# Altium schematic symbol library connectors.SchLib: 41 symbols
Pins are listed as number, name and electrical type; pins without a type are passive.

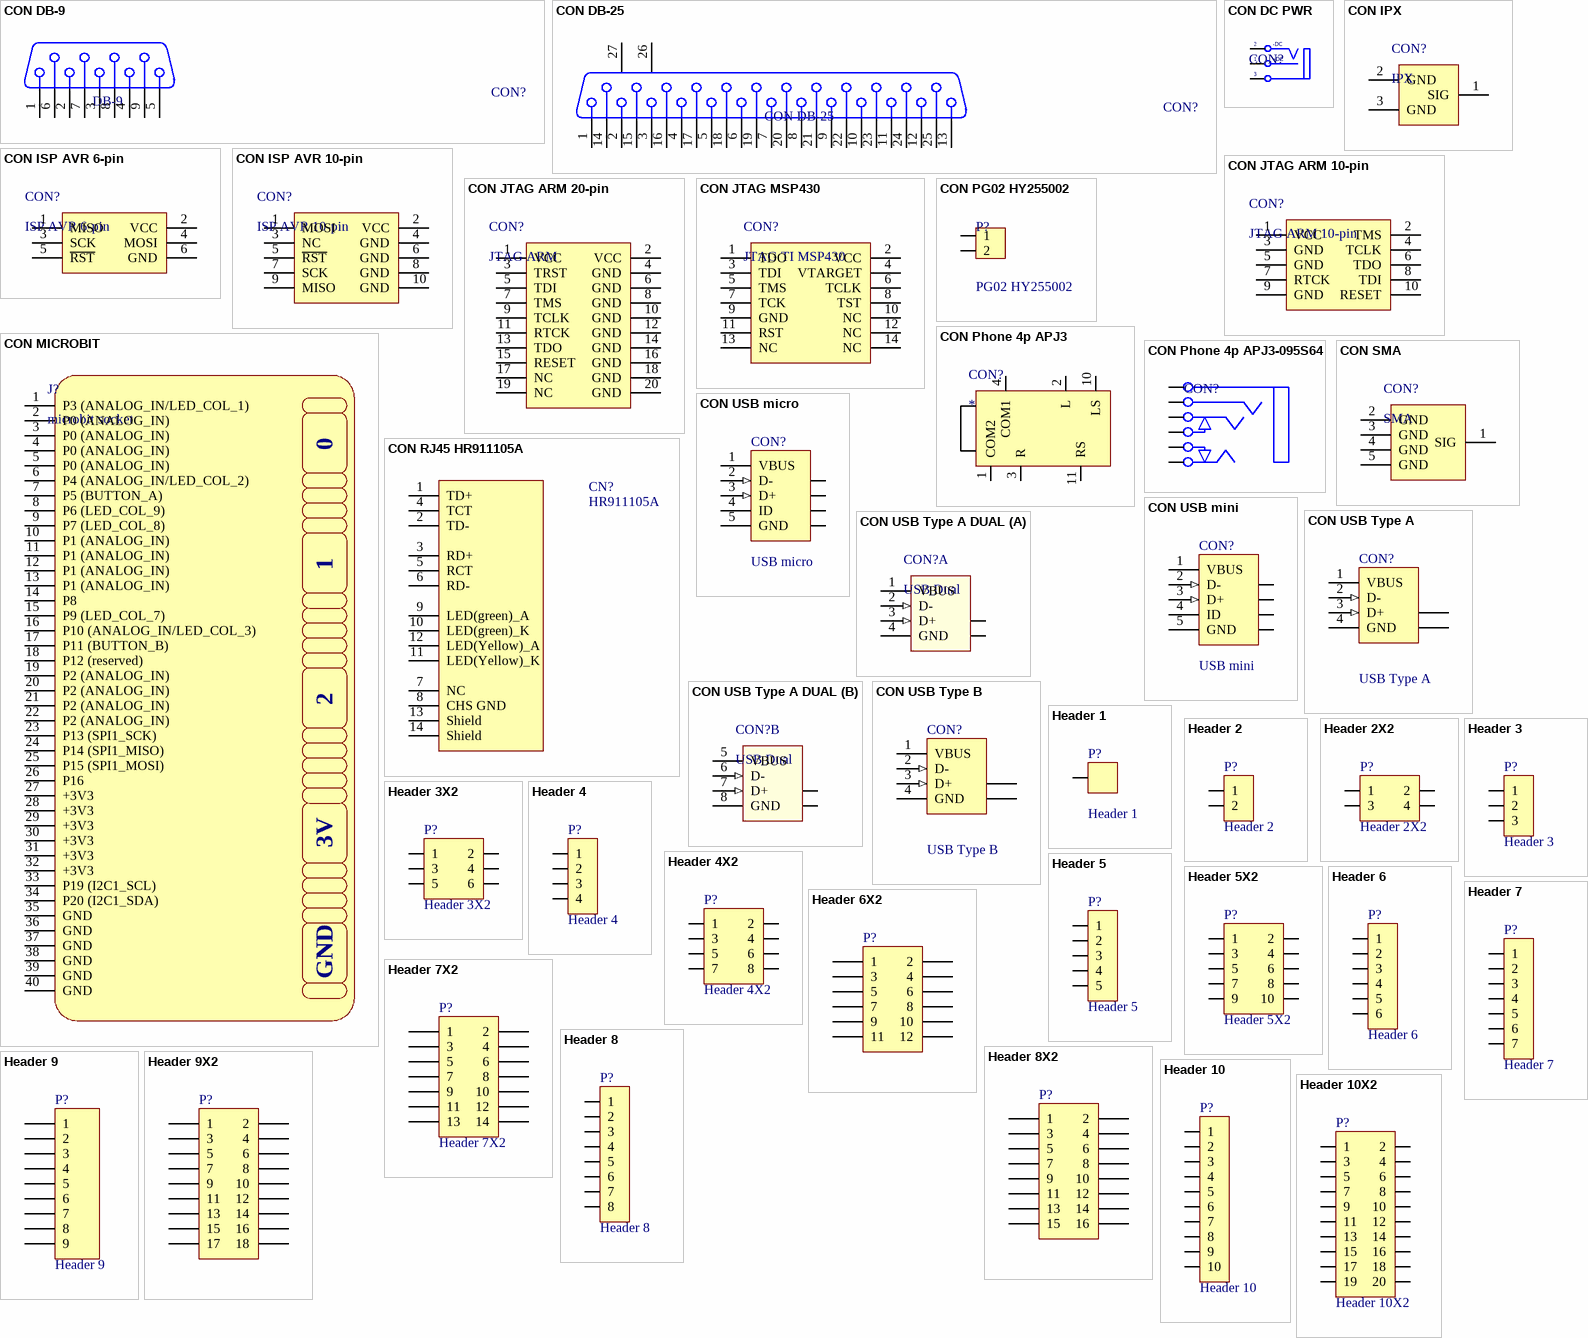
[diagram p0: symbols CON DB-9 to Header 10X2]

## CON DB-9
designator CON?, comment DB-9
Connector D-Sub 9
footprint CONN/DB9/FEMALE
pins: 1, 2, 3, 4, 5, 6, 7, 8, 9

## CON DB-25
designator CON?
Connector D-Sub 25
footprint CONN/DB25/Female (LPT FMALE - D Subminiature; 25 Position; Right Angle; Pitch 1.385 mm)
footprint CONN/DB25/Male (LPT MALE D Subminiature; 25 Position; Right Angle; Pitch 1.385 mm)
pins: 1, 2, 3, 4, 5, 6, 7, 8, 9, 10, 11, 12, 13, 14, 15, 16, 17, 18, 19, 20, 21, 22, 23, 24, 25, 26 MH1, 27 MH2

## CON DC PWR
designator CON?
DC input connector
footprint CONN/DC/PWR/3.5mm
footprint CONN/DC/PWR/5.0MM
pins: 1 S (power) "Sleeve (Ground)", 2 T "Tip Normal (Break Contact)", 3 TN "Tip"
text: -DC; +DC

## CON IPX
designator CON?, comment IPX
footprint CONN/IPX/SMD
pins: 1 SIG, 2 GND, 3 GND

## CON ISP AVR 6-pin
designator CON?, comment ISP AVR 6-pin
ISP AVR 6-pin interface
footprint HDR/Header/6/DL
footprint HDR/Header/6/DL/2mm
footprint HDR/Header/6/DL/BOX
footprint HDR/Header/6/DL/Box/RA
footprint HDR/Header/6/DL/BOX/TR
pins: 1 MISO, 2 VCC, 3 SCK, 4 MOSI, 5 ~{RST}, 6 GND

## CON ISP AVR 10-pin
designator CON?, comment ISP AVR 10-pin
ISP AVR 10-pin interface
footprint HDR/Header/10/DL/BOX (10 pins Male Box Header, IDC Socket)
footprint HDR/Header/10/DL/BOX/RA (10 pins Male Box Header right angle, IDC Socket)
pins: 1 MOSI, 2 VCC, 3 NC, 4 GND, 5 ~{RST}, 6 GND, 7 SCK, 8 GND, 9 MISO, 10 GND

## CON JTAG ARM 10-pin
designator CON?, comment JTAG ARM 10-pin
JTAG ARM 10-pin interface
footprint HDR/Header/10/DL/BOX (10 pins Male Box Header, IDC Socket)
footprint HDR/Header/10/DL/BOX/RA (10 pins Male Box Header right angle, IDC Socket)
pins: 1 VCC, 2 TMS, 3 GND, 4 TCLK, 5 GND, 6 TDO, 7 RTCK, 8 TDI, 9 GND, 10 RESET

## CON JTAG ARM 20-pin
designator CON?, comment JTAG ARM
JTAG ARM 20-pin interface
footprint HDR/Header/20/DL/BOX (20 pins Male Box Header, IDC Socket)
footprint HDR/Header/20/DL/BOX/RA (20 pins Male Box Header, IDC Socket)
pins: 1 VCC, 2 VCC, 3 TRST, 4 GND, 5 TDI, 6 GND, 7 TMS, 8 GND, 9 TCLK, 10 GND, 11 RTCK, 12 GND, 13 TDO, 14 GND, 15 RESET, 16 GND, 17 NC, 18 GND, 19 NC, 20 GND

## CON JTAG MSP430
designator CON?, comment JTAG TI MSP430
JTAG TI 14 pins for DSPs, MSPs
footprint HDR/Header/14/DL/BOX (14 pins Male Box Header, IDC Socket)
pins: 1 TDO, 2 VCC, 3 TDI, 4 VTARGET, 5 TMS, 6 TCLK, 7 TCK, 8 TST, 9 GND, 10 NC, 11 RST, 12 NC, 13 NC, 14 NC

## CON MICROBIT
designator J?, comment microbit socket
microbit socket 40 pins
footprint CONN/MIC127-140-A01
footprint CONN/MIC127-140-001
pins: 1 P3 (ANALOG_IN/LED_COL_1), 2 P0 (ANALOG_IN), 3 P0 (ANALOG_IN), 4 P0 (ANALOG_IN), 5 P0 (ANALOG_IN), 6 P4 (ANALOG_IN/LED_COL_2), 7 P5 (BUTTON_A), 8 P6 (LED_COL_9), 9 P7 (LED_COL_8), 10 P1 (ANALOG_IN), 11 P1 (ANALOG_IN), 12 P1 (ANALOG_IN), 13 P1 (ANALOG_IN), 14 P8, 15 P9 (LED_COL_7), 16 P10 (ANALOG_IN/LED_COL_3), 17 P11 (BUTTON_B), 18 P12 (reserved), 19 P2 (ANALOG_IN), 20 P2 (ANALOG_IN), 21 P2 (ANALOG_IN), 22 P2 (ANALOG_IN), 23 P13 (SPI1_SCK), 24 P14 (SPI1_MISO), 25 P15 (SPI1_MOSI), 26 P16, 27 +3V3, 28 +3V3, 29 +3V3, 30 +3V3, 31 +3V3, 32 +3V3, 33 P19 (I2C1_SCL), 34 P20 (I2C1_SDA), 35 GND, 36 GND, 37 GND, 38 GND, 39 GND, 40 GND
text: 0; 3V

## CON PG02 HY255002
designator P?, comment PG02 HY255002
Pogo 2-pin pitch 3.0 SMD
footprint CONN/HY255002
pins: 1, 2

## CON Phone 4p APJ3
designator CON?
Connector Stereo Phone 4 poles
footprint CONN/Phone/4P/SMD
pins: 1 COM2, 2 L, 3 R, 4 COM1, 10 LS, 11 RS

## CON Phone 4p APJ3-095S64
designator CON?, comment Phone Jack 4-pole APJ3-095S64  (value not drawn)
footprint CONN/Phone/4P/SMD
pins: 1, 2, 3, 4, 10, 11

## CON RJ45 HR911105A
designator CN?, comment HR911105A
Connector RJ45 HR911105A
footprint CONN/RJ45/HR911105A
pins: 1 TD+, 2 TD-, 3 RD+, 4 TCT, 5 RCT, 6 RD-, 7 NC, 8 CHS GND, 9 LED(green)_A, 10 LED(green)_K, 11 LED(Yellow)_K, 12 LED(Yellow)_A, 13 Shield, 14 Shield

## CON SMA
designator CON?, comment SMA
SMA connectors
footprint CONN/SMA (Connector; RF Coaxial, MCX, Thru-Hole; 5 Position; Right Angle)
footprint CONN/SMA/EdgePCB (Connector; RF Coaxial, MCX, Thru-Hole; 5 Position; Right Angle)
footprint CONN/SMA/RA (Connector; RF Coaxial, MCX, Thru-Hole; 5 Position; Right Angle)
pins: 1 SIG, 2 GND, 3 GND, 4 GND, 5 GND

## CON USB micro
designator CON?, comment USB micro
USB micro, 5 pins
footprint CONN/USB/MICRO/RA
footprint CONN/USB/MICRO/RA/H
pins: 1 VBUS (power) "Power", 2 D- (in) "-DATA", 3 D+ (in) "+DATA", 4 ID, 5 GND (power) "Ground", 6 SHLD "Shield", 7 SHLD "Shield", 8 SHLD "Shield", 9 SHLD "Shield"

## CON USB mini
designator CON?, comment USB mini
USB mini type B, 5 pins
footprint CONN/USB/Mini/DIP/RA (Connector; USB2.0, Type B, SM; 5 Position; Right Angle)
footprint CONN/USB/Mini/SMD/RA (Connector; USB2.0, Type B, SM; 5 Position; Right Angle)
pins: 1 VBUS (power) "Power", 2 D- (in) "-DATA", 3 D+ (in) "+DATA", 4 ID, 5 GND (power) "Ground", 6 SHLD "Shield", 7 SHLD "Shield", 8 SHLD "Shield", 9 SHLD "Shield"

## CON USB Type A
designator CON?, comment USB Type A
USB type A, 4 pins
footprint CONN/USB/A/FEMALE/RA
footprint CONN/USB/A/MALE/RA
pins: 1 VBUS (power) "Power", 2 D- (in) "-DATA", 3 D+ (in) "+DATA", 4 GND (power) "Ground", 5 SHLD "Shield", 6 SHLD "Shield"

## CON USB Type A DUAL
designator CON?, comment USB Dual
CONN USB 2.0 R/A DL FMALE TYPE A; PART NO: AU-Y1008-2-R; BRAND: Assmann WSW Components; PACKAGE: CONN USB 2.0 R/A DL FMALE TYPE A; STOCK CODE: AE10334-ND; SUPPLIER: Digi-Key; TYPE: MI
footprint CONN/USB/A/FMALE/DL/RA (USB 2.0 R/A Dual FMALE TYPE A)
part A pins: 1 VBUS, 2 D- (in), 3 D+ (in), 4 GND, 9 SHLD, 10 SHLD
part B pins: 5 VBUS, 6 D- (in), 7 D+ (in), 8 GND, 11 SHLD, 12 SHLD

## CON USB Type B
designator CON?, comment USB Type B
USB type B, 4 pins
footprint CONN/USB/B/RA
pins: 1 VBUS (power) "Power", 2 D- (in) "-DATA", 3 D+ (in) "+DATA", 4 GND (power) "Ground", 5 SHLD "Shield", 6 SHLD "Shield"

## Header 1
designator P?
Header, 1-Pin
footprint HDR/Header/1
footprint HDR/Terminal/1 (Header 1, 1 pin, hight 300mil, Pin to Pin 200, Colour Green)
footprint HDR/Terminal/1/copper/6.0 (Header 1, 1 pin,)
footprint HDR/Terminal/1/copper/9.0 (Header 1, 1 pin,)
footprint HDR/Terminal/1/copper/8.8 (Header 1, 1 pin,)
footprint HDR/Terminal/1/copper/7.5 (Header 1, 1 pin,)
pins: 1

## Header 2
designator P?
Header, 2-Pin
footprint HDR/Header/2
footprint HDR/Header/2/2mm
footprint HDR/Header/2/BOX
footprint HDR/Terminal/2 (Header 2, 2 pin, hight 400mil, Pin to Pin 200mil, Colour Green)
footprint HDR/Terminal/2/4mm
footprint HDR/Terminal/2/5mm (Header 2, 2 pin, hight 400mil, Pin to Pin 200mil, Colour Green)
footprint HDR/Terminal/2/5mm/RA (Header 2, 2 pin, hight 300mil, Pin to Pin 200, Colour Green)
footprint HDR/Terminal/2/9.5MM/ELT950 (ELT950-9.5mm-2P)
footprint HDR/Terminal/2/300
footprint HDR/Terminal/2/400
footprint HDR/Terminal/2/RA (Header 2, 2 pin, hight 300mil, Pin to Pin 200, Colour Green)
footprint HDR/Terminal/2/3.5mm
pins: 1, 2

## Header 2X2
designator P?
Header, 2-Pin, Dual row
footprint HDR/Header/4/DL
pins: 1, 2, 3, 4

## Header 3
designator P?
Header, 3-Pin
footprint HDR/Header/3
footprint HDR/Header/3/2mm
footprint HDR/Header/3/BOX
footprint HDR/Terminal/3
footprint HDR/Terminal/3/4mm
footprint HDR/Terminal/3/400
footprint HDR/Terminal/3/RA (Header 3, 3 pin, hight 300mil, Pin to Pin 200, Colour Green)
pins: 1, 2, 3

## Header 3X2
designator P?
Header, 3-Pin, Dual row
footprint HDR/Header/6/DL
footprint HDR/Header/6/DL/BOX
footprint HDR/Header/6/DL/Box/RA
footprint HDR/Header/6/DL/BOX/TR
footprint HDR/Header/6/DL/2mm
pins: 1, 2, 3, 4, 5, 6

## Header 4
designator P?
Header, 4-Pin
footprint HDR/Header/4
footprint HDR/Header/4/2mm
footprint HDR/Header/4/BOX
footprint HDR/Terminal/4
footprint HDR/Terminal/4/RA (Header 4, 4 pin, hight 300mil, Pin to Pin 200, Colour Green)
footprint HDR/Header/4/BOX/SMD
footprint HDR/Header/4/2mm/BOX/SMD
pins: 1, 2, 3, 4

## Header 4X2
designator P?
Header, 4-Pin, Dual row
footprint HDR/Header/8/DL
footprint HDR/Header/8/DL/SMD
pins: 1, 2, 3, 4, 5, 6, 7, 8

## Header 5
designator P?
Header, 5-Pin
footprint HDR/Header/5
footprint HDR/Header/5/2mm
footprint HDR/Header/5/BOX
footprint HDR/Terminal/5/RA
pins: 1, 2, 3, 4, 5

## Header 5X2
designator P?
Header, 5-Pin, Dual row
footprint HDR/Header/10/DL
footprint HDR/Header/10/DL/BOX (10 pins Male Box Header, IDC Socket)
footprint HDR/Header/10/DL/BOX/RA (10 pins Male Box Header right angle, IDC Socket)
pins: 1, 2, 3, 4, 5, 6, 7, 8, 9, 10

## Header 6
designator P?
Header, 6-Pin
footprint HDR/Header/6
footprint HDR/Header/6/2mm
footprint HDR/Header/6/BOX
footprint HDR/Terminal/6
footprint HDR/TERMINAL/6/375
footprint HDR/Terminal/6/RA (Header 6, 6 pin, hight 300mil, Pin to Pin 200, Colour Green)
pins: 1, 2, 3, 4, 5, 6

## Header 6X2
designator P?
Header, 6-Pin, Dual row
pins: 1, 2, 3, 4, 5, 6, 7, 8, 9, 10, 11, 12

## Header 7
designator P?
Header, 7-Pin
footprint HDR/Header/7
footprint HDR/Header/7/2mm
pins: 1, 2, 3, 4, 5, 6, 7

## Header 7X2
designator P?
Header, 7-Pin, Dual row
footprint HDR/Header/14/DL/BOX (14 pins Male Box Header, IDC Socket)
pins: 1, 2, 3, 4, 5, 6, 7, 8, 9, 10, 11, 12, 13, 14

## Header 8
designator P?
Header, 8-Pin
footprint HDR/Header/8
footprint HDR/Header/8/2mm
footprint HDR/TERMINAL/8/375
pins: 1, 2, 3, 4, 5, 6, 7, 8

## Header 8X2
designator P?
Header, 8-Pin, Dual row
pins: 1, 2, 3, 4, 5, 6, 7, 8, 9, 10, 11, 12, 13, 14, 15, 16

## Header 9
designator P?
Header, 9-Pin
footprint HDR/Header/9
footprint HDR/Header/9/2mm
pins: 1, 2, 3, 4, 5, 6, 7, 8, 9

## Header 9X2
designator P?
Header, 9-Pin, Dual row
pins: 1, 2, 3, 4, 5, 6, 7, 8, 9, 10, 11, 12, 13, 14, 15, 16, 17, 18

## Header 10
designator P?
Header, 10-Pin
footprint HDR/Header/10
footprint HDR/Header/10/2mm
pins: 1, 2, 3, 4, 5, 6, 7, 8, 9, 10

## Header 10X2
designator P?
Header, 10-Pin, Dual row
footprint HDR/Header/20/DL
footprint HDR/Header/20/DL/BOX (20 pins Male Box Header, IDC Socket)
footprint HDR/Header/20/DL/BOX/RA (20 pins Male Box Header, IDC Socket)
pins: 1, 2, 3, 4, 5, 6, 7, 8, 9, 10, 11, 12, 13, 14, 15, 16, 17, 18, 19, 20

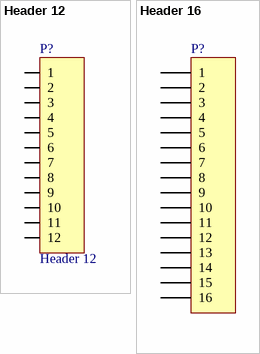
[diagram p1: symbols Header 12 to Header 16]

## Header 12
designator P?
Header, 12-Pin
footprint HDR/Header/12
pins: 1, 2, 3, 4, 5, 6, 7, 8, 9, 10, 11, 12

## Header 16
designator P?
Header, 16-Pin
pins: 1, 2, 3, 4, 5, 6, 7, 8, 9, 10, 11, 12, 13, 14, 15, 16